# EAGLE library part MC34063A (library PowerIC)
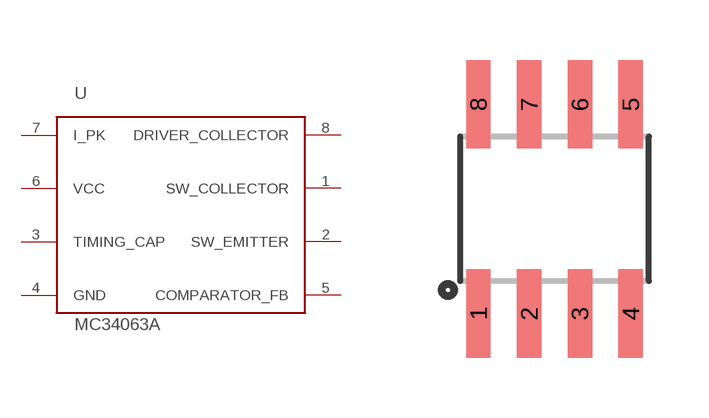
[diagram p3: symbol with the pads of SOIC8; footprint SOIC8]

Designator prefix U

## MC34063A  [SOIC8]
1  SW_COLLECTOR
2  SW_EMITTER
3  TIMING_CAP
4  GND
5  COMPARATOR_FB
6  VCC
7  I_PK
8  DRIVER_COLLECTOR

## Footprint SOIC8 (pad centres in mm)
SOIC 8-Lead
smd 0.61 x 2.21: 1 -1.905,-2.616; 2 -0.635,-2.616; 3 0.635,-2.616; 4 1.905,-2.616; 5 1.905,2.616; 6 0.635,2.616; 7 -0.635,2.616; 8 -1.905,2.616